# Altium schematic symbol library Resistors.SchLib: 129 symbols (part 2 of 3)
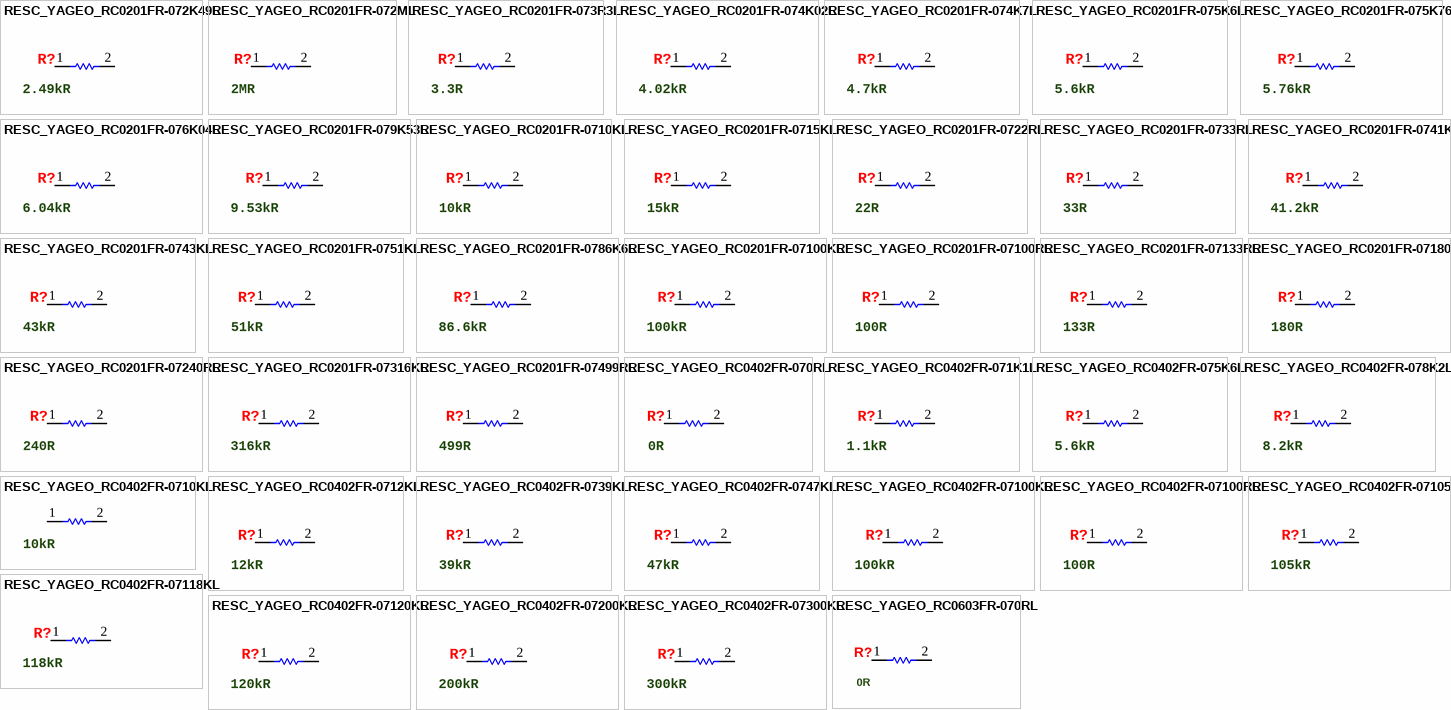
[diagram p4: symbols RESC_YAGEO_RC0201FR-072K49L to RESC_YAGEO_RC0603FR-070RL]

## RESC_YAGEO_RC0201FR-075K76L
designator R?, comment 5.76kR
5.76 kOhms ±1% 0.05W, 1/20W Chip Resistor 0201 (0603 Metric) Moisture Resistant Thick Film; Manufacturer: Yageo; Manufacturer Part Number: RC0201FR-075K76L; Temperature Coefficient: 200ppm/°C; Current Rating: 500mA; Power Rating: 50mW; Voltage Rating (DC): 25V; Category: Chip SMD Resistors; Case/Package: 0201; Min Operating Temperature: -55°C; Max Operating Temperature: 125°C; Resistance: 5.76kR; Resistor Type: Thick Film; Tolerance: 1%; RoHS Compliant: Yes; ComponentLink1URL: https://www.yageo.com/upload/media/product/productsearch/datasheet/rchip/PYu-RC_Group_51_RoHS_L_12.pdf; ComponentLink1Description: Datasheet; Supplier 1: Digi-Key; Supplier 2: Mouser; Supplier Part Number 1: YAG2745CT-ND; Supplier Part Number 2: 603-RC0201FR-075K76L; Mounting Type: SMD/SMT
footprint RESC0603X26N (Chip Resistor, EIA 0201, Metric 0603, Body 0.60x0.30mm, IPC Medium Density)
footprint RESC0603X26L (Chip Resistor, EIA 0201, Metric 0603, Body 0.60x0.30mm, IPC High Density)
footprint RESC0603X26M (Chip Resistor, EIA 0201, Metric 0603, Body 0.60x0.30mm, IPC Low Density)
simulation model Resistor (Model Description)
pins: 1, 2

## RESC_YAGEO_RC0201FR-076K04L
designator R?, comment 6.04kR
6.04 kOhms ±1% 0.05W, 1/20W Chip Resistor 0201 (0603 Metric) Moisture Resistant Thick Film; Manufacturer: Yageo; Manufacturer Part Number: RC0201FR-076K04L; Power Rating: 50mW; Temperature Coefficient: 200ppm/°C; Current Rating: 500mA; Voltage Rating (DC): 25V; Category: Chip SMD Resistors; Case/Package: 0201; Min Operating Temperature: -55°C; Max Operating Temperature: 125°C; Resistance: 6.04kR; Tolerance: 1%; Resistor Type: Thick Film; RoHS Compliant: Yes; ComponentLink1URL: https://www.yageo.com/upload/media/product/productsearch/datasheet/rchip/PYu-RC_Group_51_RoHS_L_12.pdf; ComponentLink1Description: Datasheet; Supplier 1: Digi-Key; Supplier 2: Mouser; Supplier Part Number 1: YAG2778CT-ND; Supplier Part Number 2: 603-RC0201FR-076K04L; Mounting Type: SMD/SMT
footprint RESC0603X26N (Chip Resistor, EIA 0201, Metric 0603, Body 0.60x0.30mm, IPC Medium Density)
footprint RESC0603X26L (Chip Resistor, EIA 0201, Metric 0603, Body 0.60x0.30mm, IPC High Density)
footprint RESC0603X26M (Chip Resistor, EIA 0201, Metric 0603, Body 0.60x0.30mm, IPC Low Density)
simulation model Resistor (Model Description)
pins: 1, 2

## RESC_YAGEO_RC0201FR-079K53L
designator R?, comment 9.53kR
9.53 kOhms ±1% 0.05W, 1/20W Chip Resistor 0201 (0603 Metric) Moisture Resistant Thick Film; Manufacturer: Yageo; Manufacturer Part Number: RC0201FR-079K53L; Temperature Coefficient: 200ppm/°C; Current Rating: 500mA; Power Rating: 50mW; Voltage Rating (DC): 25V; Category: Chip SMD Resistors; Case/Package: 0201; Min Operating Temperature: -55°C; Max Operating Temperature: 125°C; Resistance: 9.53kR; Resistor Type: Thick Film; Tolerance: 1%; RoHS Compliant: Yes; ComponentLink1URL: https://www.yageo.com/upload/media/product/productsearch/datasheet/rchip/PYu-RC_Group_51_RoHS_L_12.pdf; ComponentLink1Description: Datasheet; Supplier 1: Digi-Key; Supplier 2: Mouser; Supplier Part Number 1: YAG2859CT-ND; Supplier Part Number 2: 603-RC0201FR-079K53L; Mounting Type: SMD/SMT
footprint RESC0603X26N (Chip Resistor, EIA 0201, Metric 0603, Body 0.60x0.30mm, IPC Medium Density)
footprint RESC0603X26L (Chip Resistor, EIA 0201, Metric 0603, Body 0.60x0.30mm, IPC High Density)
footprint RESC0603X26M (Chip Resistor, EIA 0201, Metric 0603, Body 0.60x0.30mm, IPC Low Density)
simulation model Resistor (Model Description)
pins: 1, 2

## RESC_YAGEO_RC0201FR-0710KL
designator R?, comment 10kR
10 kOhms ±1% 0.05W, 1/20W Chip Resistor 0201 (0603 Metric) Moisture Resistant Thick Film; Manufacturer: Yageo; Manufacturer Part Number: RC0201FR-0710KL; Temperature Coefficient: 200ppm/°C; Power Rating: 50mW; Voltage Rating (DC): 25V; Current Rating: 500mA; Category: Chip SMD Resistors; Case/Package: 0201; Min Operating Temperature: -55°C; Max Operating Temperature: 125°C; Resistance: 10kR; Tolerance: 1%; Resistor Type: Thick Film; RoHS Compliant: Yes; ComponentLink1Description: Datasheet; ComponentLink1URL: https://www.yageo.com/upload/media/product/productsearch/datasheet/rchip/PYu-RC_Group_51_RoHS_L_12.pdf; Supplier 1: Digi-Key; Supplier 2: Mouser; Supplier Part Number 1: 311-10.0KMCT-ND; Supplier Part Number 2: 603-RC0201FR-0710KL; Mounting Type: SMD/SMT
footprint RESC0603X26N (Chip Resistor, EIA 0201, Metric 0603, Body 0.60x0.30mm, IPC Medium Density)
footprint RESC0603X26L (Chip Resistor, EIA 0201, Metric 0603, Body 0.60x0.30mm, IPC High Density)
footprint RESC0603X26M (Chip Resistor, EIA 0201, Metric 0603, Body 0.60x0.30mm, IPC Low Density)
simulation model Resistor (Model Description)
pins: 1, 2

## RESC_YAGEO_RC0201FR-0715KL
designator R?, comment 15kR
15 kOhms ±1% 0.05W, 1/20W Chip Resistor 0201 (0603 Metric) Moisture Resistant Thick Film; Manufacturer: Yageo; Manufacturer Part Number: RC0201FR-0715KL; Power Rating: 50mW; Temperature Coefficient: 200ppm/°C; Voltage Rating (DC): 25V; Current Rating: 500mA; Category: Chip SMD Resistors; Case/Package: 0201; Min Operating Temperature: -55°C; Max Operating Temperature: 125°C; Resistance: 15kR; Tolerance: 1%; Resistor Type: Thick Film; RoHS Compliant: Yes; ComponentLink1Description: Datasheet; ComponentLink1URL: https://www.yageo.com/upload/media/product/productsearch/datasheet/rchip/PYu-RC_Group_51_RoHS_L_12.pdf; Supplier 1: Digi-Key; Supplier 2: Mouser; Supplier Part Number 1: YAG2423CT-ND; Supplier Part Number 2: 603-RC0201FR-0715KL; Mounting Type: SMD/SMT
footprint RESC0603X26N (Chip Resistor, EIA 0201, Metric 0603, Body 0.60x0.30mm, IPC Medium Density)
footprint RESC0603X26L (Chip Resistor, EIA 0201, Metric 0603, Body 0.60x0.30mm, IPC High Density)
footprint RESC0603X26M (Chip Resistor, EIA 0201, Metric 0603, Body 0.60x0.30mm, IPC Low Density)
simulation model Resistor (Model Description)
pins: 1, 2

## RESC_YAGEO_RC0201FR-0722RL
designator R?, comment 22R
22 Ohms ±1% 0.05W, 1/20W Chip Resistor 0201 (0603 Metric) Moisture Resistant Thick Film; Manufacturer: Yageo; Manufacturer Part Number: RC0201FR-0722RL; Temperature Coefficient: 200ppm/°C; Power Rating: 50mW; Current Rating: 500mA; Voltage Rating (DC): 25V; Category: Chip SMD Resistors; Case/Package: 0201; Min Operating Temperature: -55°C; Max Operating Temperature: 125°C; Tolerance: 1%; Resistance: 22R; Resistor Type: Thick Film; RoHS Compliant: Yes; ComponentLink1URL: https://www.yageo.com/upload/media/product/productsearch/datasheet/rchip/PYu-RC_Group_51_RoHS_L_12.pdf; ComponentLink1Description: Datasheet; Supplier 1: Digi-Key; Supplier 2: Mouser; Supplier Part Number 1: YAG2518CT-ND; Supplier Part Number 2: 603-RC0201FR-0722RL; Mounting Type: SMD/SMT
footprint RESC0603X26N (Chip Resistor, EIA 0201, Metric 0603, Body 0.60x0.30mm, IPC Medium Density)
footprint RESC0603X26L (Chip Resistor, EIA 0201, Metric 0603, Body 0.60x0.30mm, IPC High Density)
footprint RESC0603X26M (Chip Resistor, EIA 0201, Metric 0603, Body 0.60x0.30mm, IPC Low Density)
simulation model Resistor (Model Description)
pins: 1, 2

## RESC_YAGEO_RC0201FR-0733RL
designator R?, comment 33R
33 Ohms ±1% 0.05W, 1/20W Chip Resistor 0201 (0603 Metric) Moisture Resistant Thick Film; Manufacturer: Yageo; Manufacturer Part Number: RC0201FR-0733RL; Power Rating: 50mW; Temperature Coefficient: 200ppm/°C; Current Rating: 500mA; Voltage Rating (DC): 25V; Category: Chip SMD Resistors; Case/Package: 0201; Min Operating Temperature: -55°C; Max Operating Temperature: 125°C; Resistance: 33R; Tolerance: 1%; Resistor Type: Thick Film; RoHS Compliant: Yes; ComponentLink1URL: https://www.yageo.com/upload/media/product/productsearch/datasheet/rchip/PYu-RC_Group_51_RoHS_L_12.pdf; ComponentLink1Description: Datasheet; Supplier 1: Digi-Key; Supplier 2: Mouser; Supplier Part Number 1: 311-33.0MCT-ND; Supplier Part Number 2: 603-RC0201FR-0733RL; Mounting Type: SMD/SMT
footprint RESC0603X26N (Chip Resistor, EIA 0201, Metric 0603, Body 0.60x0.30mm, IPC Medium Density)
footprint RESC0603X26L (Chip Resistor, EIA 0201, Metric 0603, Body 0.60x0.30mm, IPC High Density)
footprint RESC0603X26M (Chip Resistor, EIA 0201, Metric 0603, Body 0.60x0.30mm, IPC Low Density)
simulation model Resistor (Model Description)
pins: 1, 2

## RESC_YAGEO_RC0201FR-0741K2L
designator R?, comment 41.2kR
41.2 kOhms ±1% 0.05W, 1/20W Chip Resistor 0201 (0603 Metric) Moisture Resistant Thick Film; Manufacturer: Yageo; Manufacturer Part Number: RC0201FR-0741K2L; Temperature Coefficient: 200ppm/°C; Current Rating: 500mA; Power Rating: 50mW; Voltage Rating (DC): 25V; Category: Chip SMD Resistors; Case/Package: 0201; Min Operating Temperature: -55°C; Max Operating Temperature: 125°C; Resistance: 41.2kR; Tolerance: 1%; Resistor Type: Thick Film; RoHS Compliant: Yes; ComponentLink1Description: Datasheet; ComponentLink1URL: https://www.yageo.com/upload/media/product/productsearch/datasheet/rchip/PYu-RC_Group_51_RoHS_L_12.pdf; Supplier 1: Digi-Key; Supplier 2: Mouser; Supplier Part Number 1: YAG2662CT-ND; Supplier Part Number 2: 603-RC0201FR-0741K2L; Mounting Type: SMD/SMT
footprint RESC0603X26N (Chip Resistor, EIA 0201, Metric 0603, Body 0.60x0.30mm, IPC Medium Density)
footprint RESC0603X26M (Chip Resistor, EIA 0201, Metric 0603, Body 0.60x0.30mm, IPC Low Density)
footprint RESC0603X26L (Chip Resistor, EIA 0201, Metric 0603, Body 0.60x0.30mm, IPC High Density)
simulation model Resistor (Model Description)
pins: 1, 2

## RESC_YAGEO_RC0201FR-0743KL
designator R?, comment 43kR
43 kOhms ±1% 0.05W, 1/20W Chip Resistor 0201 (0603 Metric) Moisture Resistant Thick Film; Manufacturer: Yageo; Manufacturer Part Number: RC0201FR-0743KL; Temperature Coefficient: 200ppm/°C; Current Rating: 500mA; Power Rating: 50mW; Voltage Rating (DC): 25V; Category: Chip SMD Resistors; Case/Package: 0201; Min Operating Temperature: -55°C; Max Operating Temperature: 125°C; Resistance: 43kR; Tolerance: 1%; Resistor Type: Thick Film; RoHS Compliant: Yes; ComponentLink1Description: Datasheet; ComponentLink1URL: https://www.yageo.com/upload/media/product/productsearch/datasheet/rchip/PYu-RC_Group_51_RoHS_L_12.pdf; Supplier 1: Digi-Key; Supplier 2: Mouser; Supplier Part Number 1: YAG2673CT-ND; Supplier Part Number 2: 603-RC0201FR-0743KL; Mounting Type: SMD/SMT
footprint RESC0603X26N (Chip Resistor, EIA 0201, Metric 0603, Body 0.60x0.30mm, IPC Medium Density)
footprint RESC0603X26L (Chip Resistor, EIA 0201, Metric 0603, Body 0.60x0.30mm, IPC High Density)
footprint RESC0603X26M (Chip Resistor, EIA 0201, Metric 0603, Body 0.60x0.30mm, IPC Low Density)
simulation model Resistor (Model Description)
pins: 1, 2

## RESC_YAGEO_RC0201FR-0751KL
designator R?, comment 51kR
51 kOhms ±1% 0.05W, 1/20W Chip Resistor 0201 (0603 Metric) Moisture Resistant Thick Film; Manufacturer: Yageo; Manufacturer Part Number: RC0201FR-0751KL; Temperature Coefficient: 200ppm/°C; Power Rating: 50mW; Current Rating: 500mA; Voltage Rating (DC): 25V; Category: Chip SMD Resistors; Case/Package: 0201; Min Operating Temperature: -55°C; Max Operating Temperature: 125°C; Resistance: 51kR; Tolerance: 1%; Resistor Type: Thick Film; RoHS Compliant: Yes; ComponentLink1Description: Datasheet; ComponentLink1URL: https://www.yageo.com/upload/media/product/productsearch/datasheet/rchip/PYu-RC_Group_51_RoHS_L_12.pdf; Supplier 1: Digi-Key; Supplier 2: Mouser; Supplier Part Number 1: 311-51.0KMCT-ND; Supplier Part Number 2: 603-RC0201FR-0751KL; Mounting Type: SMD/SMT
footprint RESC0603X26N (Chip Resistor, EIA 0201, Metric 0603, Body 0.60x0.30mm, IPC Medium Density)
footprint RESC0603X26L (Chip Resistor, EIA 0201, Metric 0603, Body 0.60x0.30mm, IPC High Density)
footprint RESC0603X26M (Chip Resistor, EIA 0201, Metric 0603, Body 0.60x0.30mm, IPC Low Density)
simulation model Resistor (Model Description)
pins: 1, 2

## RESC_YAGEO_RC0201FR-0786K6L
designator R?, comment 86.6kR
86.6 kOhms ±1% 0.05W, 1/20W Chip Resistor 0201 (0603 Metric) Moisture Resistant Thick Film; Manufacturer: Yageo; Manufacturer Part Number: RC0201FR-0786K6L; Current Rating: 500mA; Power Rating: 50mW; Temperature Coefficient: 200ppm/°C; Voltage Rating (DC): 25V; Category: Chip SMD Resistors; Case/Package: 0201; Min Operating Temperature: -55°C; Max Operating Temperature: 125°C; Resistance: 86.6kR; Resistor Type: Thick Film; Tolerance: 1%; RoHS Compliant: Yes; ComponentLink1Description: Datasheet; ComponentLink1URL: https://www.yageo.com/upload/media/product/productsearch/datasheet/rchip/PYu-RC_Group_51_RoHS_L_12.pdf; Supplier 1: Digi-Key; Supplier 2: Mouser; Supplier Part Number 1: YAG2825CT-ND; Supplier Part Number 2: 603-RC0201FR-0786K6L; Mounting Type: SMD/SMT
footprint RESC0603X26N (Chip Resistor, EIA 0201, Metric 0603, Body 0.60x0.30mm, IPC Medium Density)
footprint RESC0603X26L (Chip Resistor, EIA 0201, Metric 0603, Body 0.60x0.30mm, IPC High Density)
footprint RESC0603X26M (Chip Resistor, EIA 0201, Metric 0603, Body 0.60x0.30mm, IPC Low Density)
simulation model Resistor (Model Description)
pins: 1, 2

## RESC_YAGEO_RC0201FR-07100KL
designator R?, comment 100kR
100 kOhms ±1% 0.05W, 1/20W Chip Resistor 0201 (0603 Metric) Moisture Resistant Thick Film; Manufacturer: Yageo; Manufacturer Part Number: RC0201FR-07100KL; Temperature Coefficient: 200ppm/°C; Power Rating: 50mW; Voltage Rating (DC): 25V; Current Rating: 500mA; Category: Chip SMD Resistors; Case/Package: 0201; Min Operating Temperature: -55°C; Max Operating Temperature: 125°C; Tolerance: 1%; Resistance: 100kR; Resistor Type: Thick Film; RoHS Compliant: Yes; ComponentLink1Description: Datasheet; ComponentLink1URL: https://www.yageo.com/upload/media/product/productsearch/datasheet/rchip/PYu-RC_Group_51_RoHS_L_12.pdf; Supplier 1: Digi-Key; Supplier 2: Mouser; Supplier Part Number 1: 311-100KMCT-ND; Supplier Part Number 2: 603-RC0201FR-07100KL; Mounting Type: SMD/SMT
footprint RESC0603X26N (Chip Resistor, EIA 0201, Metric 0603, Body 0.60x0.30mm, IPC Medium Density)
footprint RESC0603X26L (Chip Resistor, EIA 0201, Metric 0603, Body 0.60x0.30mm, IPC High Density)
footprint RESC0603X26M (Chip Resistor, EIA 0201, Metric 0603, Body 0.60x0.30mm, IPC Low Density)
simulation model Resistor (Model Description)
pins: 1, 2

## RESC_YAGEO_RC0201FR-07100RL
designator R?, comment 100R
100 Ohms ±1% 0.05W, 1/20W Chip Resistor 0201 (0603 Metric) Moisture Resistant Thick Film; Manufacturer: Yageo; Manufacturer Part Number: RC0201FR-07100RL; Temperature Coefficient: 200ppm/°C; Power Rating: 50mW; Current Rating: 500mA; Voltage Rating (DC): 25V; Category: Chip SMD Resistors; Case/Package: 0201; Min Operating Temperature: -55°C; Max Operating Temperature: 125°C; Resistance: 100R; Tolerance: 1%; Resistor Type: Thick Film; RoHS Compliant: Yes; ComponentLink1Description: Datasheet; ComponentLink1URL: https://www.yageo.com/upload/media/product/productsearch/datasheet/rchip/PYu-RC_Group_51_RoHS_L_12.pdf; Supplier 1: Digi-Key; Supplier 2: Mouser; Supplier Part Number 1: 311-100MCT-ND; Supplier Part Number 2: 603-RC0201FR-07100RL; Mounting Type: SMD/SMT
footprint RESC0603X26N (Chip Resistor, EIA 0201, Metric 0603, Body 0.60x0.30mm, IPC Medium Density)
footprint RESC0603X26L (Chip Resistor, EIA 0201, Metric 0603, Body 0.60x0.30mm, IPC High Density)
footprint RESC0603X26M (Chip Resistor, EIA 0201, Metric 0603, Body 0.60x0.30mm, IPC Low Density)
simulation model Resistor (Model Description)
pins: 1, 2

## RESC_YAGEO_RC0201FR-07133RL
designator R?, comment 133R
133 Ohms ±1% 0.05W, 1/20W Chip Resistor 0201 (0603 Metric) Moisture Resistant Thick Film; Manufacturer: Yageo; Manufacturer Part Number: RC0201FR-07133RL; Temperature Coefficient: 200ppm/°C; Current Rating: 500mA; Power Rating: 50mW; Voltage Rating (DC): 25V; Category: Chip SMD Resistors; Case/Package: 0201; Min Operating Temperature: -55°C; Max Operating Temperature: 125°C; Resistance: 133R; Resistor Type: Thick Film; Tolerance: 1%; RoHS Compliant: Yes; ComponentLink1Description: Datasheet; ComponentLink1URL: https://www.yageo.com/upload/media/product/productsearch/datasheet/rchip/PYu-RC_Group_51_RoHS_L_12.pdf; Supplier 1: Digi-Key; Supplier 2: Mouser; Supplier Part Number 1: YAG2396CT-ND; Supplier Part Number 2: 603-RC0201FR-07133RL; Mounting Type: SMD/SMT
footprint RESC0603X26N (Chip Resistor, EIA 0201, Metric 0603, Body 0.60x0.30mm, IPC Medium Density)
footprint RESC0603X26L (Chip Resistor, EIA 0201, Metric 0603, Body 0.60x0.30mm, IPC High Density)
footprint RESC0603X26M (Chip Resistor, EIA 0201, Metric 0603, Body 0.60x0.30mm, IPC Low Density)
simulation model Resistor (Model Description)
pins: 1, 2

## RESC_YAGEO_RC0201FR-07180RL
designator R?, comment 180R
180 Ohms ±1% 0.05W, 1/20W Chip Resistor 0201 (0603 Metric) Moisture Resistant Thick Film; Manufacturer: Yageo; Manufacturer Part Number: RC0201FR-07180RL; Temperature Coefficient: 200ppm/°C; Power Rating: 50mW; Current Rating: 500mA; Voltage Rating (DC): 25V; Category: Chip SMD Resistors; Case/Package: 0201; Min Operating Temperature: -55°C; Max Operating Temperature: 125°C; Resistance: 180R; Tolerance: 1%; Resistor Type: Thick Film; RoHS Compliant: Yes; ComponentLink1Description: Datasheet; ComponentLink1URL: https://www.yageo.com/upload/media/product/productsearch/datasheet/rchip/PYu-RC_Group_51_RoHS_L_12.pdf; Supplier 1: Digi-Key; Supplier 2: Mouser; Supplier Part Number 1: YAG2450CT-ND; Supplier Part Number 2: 603-RC0201FR-07180RL; Mounting Type: SMD/SMT
footprint RESC0603X26N (Chip Resistor, EIA 0201, Metric 0603, Body 0.60x0.30mm, IPC Medium Density)
footprint RESC0603X26L (Chip Resistor, EIA 0201, Metric 0603, Body 0.60x0.30mm, IPC High Density)
footprint RESC0603X26M (Chip Resistor, EIA 0201, Metric 0603, Body 0.60x0.30mm, IPC Low Density)
simulation model Resistor (Model Description)
pins: 1, 2

## RESC_YAGEO_RC0201FR-07240RL
designator R?, comment 240R
240 Ohms ±1% 0.05W, 1/20W Chip Resistor 0201 (0603 Metric) Moisture Resistant Thick Film; Manufacturer: Yageo; Manufacturer Part Number: RC0201FR-07240RL; Power Rating: 50mW; Temperature Coefficient: 200ppm/°C; Current Rating: 500mA; Voltage Rating (DC): 25V; Category: Chip SMD Resistors; Case/Package: 0201; Min Operating Temperature: -55°C; Max Operating Temperature: 125°C; Resistance: 240R; Tolerance: 1%; Resistor Type: Thick Film; RoHS Compliant: Yes; ComponentLink1Description: Datasheet; ComponentLink1URL: https://www.yageo.com/upload/media/product/productsearch/datasheet/rchip/PYu-RC_Group_51_RoHS_L_12.pdf; Supplier 1: Digi-Key; Supplier 2: Mouser; Supplier Part Number 1: YAG2528CT-ND; Supplier Part Number 2: 603-RC0201FR-07240RL; Mounting Type: SMD/SMT
footprint RESC0603X26N (Chip Resistor, EIA 0201, Metric 0603, Body 0.60x0.30mm, IPC Medium Density)
footprint RESC0603X26L (Chip Resistor, EIA 0201, Metric 0603, Body 0.60x0.30mm, IPC High Density)
footprint RESC0603X26M (Chip Resistor, EIA 0201, Metric 0603, Body 0.60x0.30mm, IPC Low Density)
simulation model Resistor (Model Description)
pins: 1, 2

## RESC_YAGEO_RC0201FR-07316KL
designator R?, comment 316kR
316 kOhms ±1% 0.05W, 1/20W Chip Resistor 0201 (0603 Metric) Moisture Resistant Thick Film; Manufacturer: Yageo; Manufacturer Part Number: RC0201FR-07316KL; Temperature Coefficient: 200ppm/°C; Current Rating: 500mA; Power Rating: 50mW; Voltage Rating (DC): 25V; Category: Chip SMD Resistors; Case/Package: 0201; Min Operating Temperature: -55°C; Max Operating Temperature: 125°C; Resistance: 316kR; Resistor Type: Thick Film; Tolerance: 1%; RoHS Compliant: Yes; ComponentLink1Description: Datasheet; ComponentLink1URL: https://www.yageo.com/upload/media/product/productsearch/datasheet/rchip/PYu-RC_Group_51_RoHS_L_12.pdf; Supplier 1: Digi-Key; Supplier 2: Mouser; Supplier Part Number 1: YAG2595CT-ND; Supplier Part Number 2: 603-RC0201FR-07316KL; Mounting Type: SMD/SMT
footprint RESC0603X26N (Chip Resistor, EIA 0201, Metric 0603, Body 0.60x0.30mm, IPC Medium Density)
footprint RESC0603X26L (Chip Resistor, EIA 0201, Metric 0603, Body 0.60x0.30mm, IPC High Density)
footprint RESC0603X26M (Chip Resistor, EIA 0201, Metric 0603, Body 0.60x0.30mm, IPC Low Density)
simulation model Resistor (Model Description)
pins: 1, 2

## RESC_YAGEO_RC0201FR-07499RL
designator R?, comment 499R
499 Ohms ±1% 0.05W, 1/20W Chip Resistor 0201 (0603 Metric) Moisture Resistant Thick Film; Manufacturer: Yageo; Manufacturer Part Number: RC0201FR-07499RL; Temperature Coefficient: 200ppm/°C; Current Rating: 500mA; Power Rating: 50mW; Voltage Rating (DC): 25V; Category: Chip SMD Resistors; Case/Package: 0201; Min Operating Temperature: -55°C; Max Operating Temperature: 125°C; Tolerance: 1%; Resistor Type: Thick Film; RoHS Compliant: Yes; Resistance: 499R; ComponentLink1Description: Datasheet; ComponentLink1URL: https://www.yageo.com/upload/media/product/productsearch/datasheet/rchip/PYu-RC_Group_51_RoHS_L_12.pdf; Supplier 1: Digi-Key; Supplier 2: Mouser; Supplier Part Number 1: YAG2700CT-ND; Supplier Part Number 2: 603-RC0201FR-07499RL; Mounting Type: SMD/SMT
footprint RESC0603X26N (Chip Resistor, EIA 0201, Metric 0603, Body 0.60x0.30mm, IPC Medium Density)
footprint RESC0603X26L (Chip Resistor, EIA 0201, Metric 0603, Body 0.60x0.30mm, IPC High Density)
footprint RESC0603X26M (Chip Resistor, EIA 0201, Metric 0603, Body 0.60x0.30mm, IPC Low Density)
simulation model Resistor (Model Description)
pins: 1, 2

## RESC_YAGEO_RC0402FR-070RL
designator R?, comment 0R
0 Ohms Jumper Chip Resistor 0402 (1005 Metric) Moisture Resistant Thick Film; Manufacturer: Yageo; Manufacturer Part Number: RC0402FR-070RL; Tolerance: 1%; Power Rating: 62.5mW; Temperature Coefficient: 100ppm/°C; Current Rating: 1A; Voltage Rating (DC): 50V; Category: Chip SMD Resistors; Case/Package: 0402; Min Operating Temperature: -55°C; Max Operating Temperature: 155°C; Resistance: 0R; Resistor Type: Thick Film; RoHS Compliant: Yes; ComponentLink1Description: Datasheet; ComponentLink1URL: https://www.yageo.com/upload/media/product/productsearch/datasheet/rchip/PYu-RC_Group_51_RoHS_L_12.pdf; Supplier 1: Digi-Key; Supplier Part Number 1: 311-0.0LRCT-ND; Supplier 2: Mouser; Supplier Part Number 2: 603-RC0402FR-070RL; Mounting Type: SMD/SMT
footprint RESC1005X40N (Chip Resistor, EIA 0402, Metric 1005, Body 1.00x0.50mm, IPC Medium Density)
footprint RESC1005X40L (Chip Resistor, EIA 0402, Metric 1005, Body 1.00x0.50mm, IPC High Density)
footprint RESC1005X40M (Chip Resistor, EIA 0402, Metric 1005, Body 1.00x0.50mm, IPC Low Density)
simulation model Resistor (Model Description)
pins: 1, 2

## RESC_YAGEO_RC0402FR-071K1L
designator R?, comment 1.1kR
1.1 kOhms ±1% 0.063W, 1/16W Chip Resistor 0402 (1005 Metric) Moisture Resistant Thick Film; Manufacturer: Yageo; Manufacturer Part Number: RC0402FR-071K1L; Power Rating: 62.5mW; Temperature Coefficient: 100ppm/°C; Voltage Rating (DC): 50V; Current Rating: 1A; Category: Chip SMD Resistors; Case/Package: 0402; Min Operating Temperature: -55°C; Max Operating Temperature: 155°C; Resistance: 1.1kR; Tolerance: 1%; RoHS Compliant: Yes; ComponentLink1URL: https://www.yageo.com/upload/media/product/productsearch/datasheet/rchip/PYu-RC_Group_51_RoHS_L_12.pdf; ComponentLink1Description: Datasheet; Resistor Type: Thick Film; Supplier 1: Digi-Key; Supplier Part Number 1: 311-1.10KLRCT-ND; Supplier 2: Mouser; Supplier Part Number 2: 603-RC0402FR-071K1L; Mounting Type: SMD/SMT
footprint RESC1005X40N (Chip Resistor, EIA 0402, Metric 1005, Body 1.00x0.50mm, IPC Medium Density)
footprint RESC1005X40M (Chip Resistor, EIA 0402, Metric 1005, Body 1.00x0.50mm, IPC Low Density)
footprint RESC1005X40L (Chip Resistor, EIA 0402, Metric 1005, Body 1.00x0.50mm, IPC High Density)
simulation model Resistor (Model Description)
pins: 1, 2

## RESC_YAGEO_RC0402FR-075K6L
designator R?, comment 5.6kR
5.6 kOhms ±1% 0.063W, 1/16W Chip Resistor 0402 (1005 Metric) Moisture Resistant Thick Film; Manufacturer: Yageo; Manufacturer Part Number: RC0402FR-075K6L; Power Rating: 62.5mW; Temperature Coefficient: 100ppm/°C; Current Rating: 1A; Voltage Rating (DC): 50V; Category: Chip SMD Resistors; Case/Package: 0402; Min Operating Temperature: -55°C; Max Operating Temperature: 155°C; Tolerance: 1%; Resistance: 5.6kR; Resistor Type: Thick Film; RoHS Compliant: Yes; ComponentLink1URL: https://www.yageo.com/upload/media/product/productsearch/datasheet/rchip/PYu-RC_Group_51_RoHS_L_12.pdf; ComponentLink1Description: Datasheet; Supplier 1: Digi-Key; Supplier 2: Mouser; Supplier Part Number 1: 311-5.6KLRCT-ND; Supplier Part Number 2: 603-RC0402FR-075K6L; Mounting Type: SMD/SMT
footprint RESC1005X40N (Chip Resistor, EIA 0402, Metric 1005, Body 1.00x0.50mm, IPC Medium Density)
footprint RESC1005X40L (Chip Resistor, EIA 0402, Metric 1005, Body 1.00x0.50mm, IPC High Density)
footprint RESC1005X40M (Chip Resistor, EIA 0402, Metric 1005, Body 1.00x0.50mm, IPC Low Density)
simulation model Resistor (Model Description)
pins: 1, 2

## RESC_YAGEO_RC0402FR-078K2L
designator R?, comment 8.2kR
8.2 kOhms ±1% 0.063W, 1/16W Chip Resistor 0402 (1005 Metric) Moisture Resistant Thick Film; Manufacturer: Yageo; Manufacturer Part Number: RC0402FR-078K2L; Power Rating: 62.5mW; Temperature Coefficient: 100ppm/°C; Current Rating: 1A; Voltage Rating (DC): 50V; Category: Chip SMD Resistors; Case/Package: 0402; Min Operating Temperature: -55°C; Max Operating Temperature: 155°C; Resistance: 8.2kR; Tolerance: 1%; Resistor Type: Thick Film; RoHS Compliant: Yes; ComponentLink1URL: https://www.yageo.com/upload/media/product/productsearch/datasheet/rchip/PYu-RC_Group_51_RoHS_L_12.pdf; ComponentLink1Description: Datasheet; Supplier 1: Digi-Key; Supplier 2: Mouser; Supplier Part Number 1: 311-8.20KLRCT-ND; Supplier Part Number 2: 603-RC0402FR-078K2L; Mounting Type: SMD/SMT
footprint RESC1005X40N (Chip Resistor, EIA 0402, Metric 1005, Body 1.00x0.50mm, IPC Medium Density)
footprint RESC1005X40L (Chip Resistor, EIA 0402, Metric 1005, Body 1.00x0.50mm, IPC High Density)
footprint RESC1005X40M (Chip Resistor, EIA 0402, Metric 1005, Body 1.00x0.50mm, IPC Low Density)
simulation model Resistor (Model Description)
pins: 1, 2

## RESC_YAGEO_RC0402FR-0710KL
designator R?, comment 10kR
10 kOhms ±1% 0.063W, 1/16W Chip Resistor 0402 (1005 Metric) Moisture Resistant Thick Film; Manufacturer: Yageo; Manufacturer Part Number: RC0402FR-0710KL; Voltage Rating (DC): 50V; Temperature Coefficient: 100ppm/°C; Power Rating: 62.5mW; Current Rating: 1A; Category: Chip SMD Resistors; Case/Package: 0402; Min Operating Temperature: -55°C; Max Operating Temperature: 155°C; Resistor Type: Thick Film; Resistance: 10kR; Tolerance: 1%; RoHS Compliant: Yes; ComponentLink1Description: Datasheet; ComponentLink1URL: https://www.yageo.com/upload/media/product/productsearch/datasheet/rchip/PYu-RC_Group_51_RoHS_L_12.pdf; Supplier 1: Digi-Key; Supplier 2: Mouser; Supplier Part Number 1: 311-10.0KLRCT-ND; Supplier Part Number 2: 603-RC0402FR-0710KL; Mounting Type: SMD/SMT
footprint RESC1005X40N (Chip Resistor, EIA 0402, Metric 1005, Body 1.00x0.50mm, IPC Medium Density)
footprint RESC1005X40L (Chip Resistor, EIA 0402, Metric 1005, Body 1.00x0.50mm, IPC High Density)
footprint RESC1005X40M (Chip Resistor, EIA 0402, Metric 1005, Body 1.00x0.50mm, IPC Low Density)
simulation model Resistor (Model Description)
pins: 1, 2

## RESC_YAGEO_RC0402FR-0712KL
designator R?, comment 12kR
12 kOhms ±1% 0.063W, 1/16W Chip Resistor 0402 (1005 Metric) Moisture Resistant Thick Film; Manufacturer: Yageo; Manufacturer Part Number: RC0402FR-0712KL; Power Rating: 62.5mW; Temperature Coefficient: 100ppm/°C; Current Rating: 1A; Voltage Rating (DC): 50V; Category: Chip SMD Resistors; Case/Package: 0402; Min Operating Temperature: -55°C; Max Operating Temperature: 155°C; Resistance: 12kR; Tolerance: 1%; Resistor Type: Thick Film; RoHS Compliant: Yes; ComponentLink1URL: https://www.yageo.com/upload/media/product/productsearch/datasheet/rchip/PYu-RC_Group_51_RoHS_L_12.pdf; ComponentLink1Description: Datasheet; Supplier 1: Digi-Key; Supplier 2: Mouser; Supplier Part Number 1: 311-12.0KLRCT-ND; Supplier Part Number 2: 603-RC0402FR-0712KL; Mounting Type: SMD/SMT
footprint RESC1005X40N (Chip Resistor, EIA 0402, Metric 1005, Body 1.00x0.50mm, IPC Medium Density)
footprint RESC1005X40L (Chip Resistor, EIA 0402, Metric 1005, Body 1.00x0.50mm, IPC High Density)
footprint RESC1005X40M (Chip Resistor, EIA 0402, Metric 1005, Body 1.00x0.50mm, IPC Low Density)
simulation model Resistor (Model Description)
pins: 1, 2

## RESC_YAGEO_RC0402FR-0739KL
designator R?, comment 39kR
39 kOhms ±1% 0.063W, 1/16W Chip Resistor 0402 (1005 Metric) Moisture Resistant Thick Film; Manufacturer: Yageo; Manufacturer Part Number: RC0402FR-0739KL; Power Rating: 62.5mW; Temperature Coefficient: 100ppm/°C; Current Rating: 1A; Voltage Rating (DC): 50V; Category: Chip SMD Resistors; Case/Package: 0402; Min Operating Temperature: -55°C; Max Operating Temperature: 155°C; Resistance: 39kR; Tolerance: 1%; Resistor Type: Thick Film; RoHS Compliant: Yes; ComponentLink1Description: Datasheet; ComponentLink1URL: https://www.yageo.com/upload/media/product/productsearch/datasheet/rchip/PYu-RC_Group_51_RoHS_L_12.pdf; Supplier 1: Digi-Key; Supplier 2: Mouser; Supplier Part Number 1: 311-39.0KLRCT-ND; Supplier Part Number 2: 603-RC0402FR-0739KL; Mounting Type: SMD/SMT
footprint RESC1005X40N (Chip Resistor, EIA 0402, Metric 1005, Body 1.00x0.50mm, IPC Medium Density)
footprint RESC1005X40L (Chip Resistor, EIA 0402, Metric 1005, Body 1.00x0.50mm, IPC High Density)
footprint RESC1005X40M (Chip Resistor, EIA 0402, Metric 1005, Body 1.00x0.50mm, IPC Low Density)
simulation model Resistor (Model Description)
pins: 1, 2

## RESC_YAGEO_RC0402FR-0747KL
designator R?, comment 47kR
47 kOhms ±1% 0.063W, 1/16W Chip Resistor 0402 (1005 Metric) Moisture Resistant Thick Film; Manufacturer: Yageo; Manufacturer Part Number: RC0402FR-0747KL; Power Rating: 62.5mW; Temperature Coefficient: 100ppm/°C; Current Rating: 1A; Voltage Rating (DC): 50V; Category: Chip SMD Resistors; Case/Package: 0402; Min Operating Temperature: -55°C; Max Operating Temperature: 155°C; Tolerance: 1%; Resistance: 47kR; Resistor Type: Thick Film; RoHS Compliant: Yes; ComponentLink1Description: Datasheet; ComponentLink1URL: https://www.yageo.com/upload/media/product/productsearch/datasheet/rchip/PYu-RC_Group_51_RoHS_L_12.pdf; Supplier 1: Digi-Key; Supplier 2: Mouser; Supplier Part Number 1: 311-47.0KLRCT-ND; Supplier Part Number 2: 603-RC0402FR-0747KL; Mounting Type: SMD/SMT
footprint RESC1005X40N (Chip Resistor, EIA 0402, Metric 1005, Body 1.00x0.50mm, IPC Medium Density)
footprint RESC1005X40L (Chip Resistor, EIA 0402, Metric 1005, Body 1.00x0.50mm, IPC High Density)
footprint RESC1005X40M (Chip Resistor, EIA 0402, Metric 1005, Body 1.00x0.50mm, IPC Low Density)
simulation model Resistor (Model Description)
pins: 1, 2

## RESC_YAGEO_RC0402FR-07100KL
designator R?, comment 100kR
100 kOhms ±1% 0.063W, 1/16W Chip Resistor 0402 (1005 Metric) Moisture Resistant Thick Film; Manufacturer: Yageo; Manufacturer Part Number: RC0402FR-07100KL; Temperature Coefficient: 100ppm/°C; Power Rating: 62.5mW; Current Rating: 1A; Voltage Rating (DC): 50V; Category: Chip SMD Resistors; Case/Package: 0402; Min Operating Temperature: -55°C; Max Operating Temperature: 155°C; Resistor Type: Thick Film; Tolerance: 1%; Resistance: 100kR; RoHS Compliant: Yes; ComponentLink1Description: Datasheet; ComponentLink1URL: https://www.yageo.com/upload/media/product/productsearch/datasheet/rchip/PYu-RC_Group_51_RoHS_L_12.pdf; Supplier 1: Digi-Key; Supplier 2: Mouser; Supplier Part Number 1: 311-100KLRCT-ND; Supplier Part Number 2: 603-RC0402FR-07100KL; Mounting Type: SMD/SMT
footprint RESC1005X40N (Chip Resistor, EIA 0402, Metric 1005, Body 1.00x0.50mm, IPC Medium Density)
footprint RESC1005X40L (Chip Resistor, EIA 0402, Metric 1005, Body 1.00x0.50mm, IPC High Density)
footprint RESC1005X40M (Chip Resistor, EIA 0402, Metric 1005, Body 1.00x0.50mm, IPC Low Density)
simulation model Resistor (Model Description)
pins: 1, 2

## RESC_YAGEO_RC0402FR-07100RL
designator R?, comment 100R
100 Ohms ±1% 0.063W, 1/16W Chip Resistor 0402 (1005 Metric) Moisture Resistant Thick Film; Manufacturer: Yageo; Manufacturer Part Number: RC0402FR-07100RL; Power Rating: 62.5mW; Voltage Rating (DC): 50V; Temperature Coefficient: 100ppm/°C; Current Rating: 1A; Category: Chip SMD Resistors; Case/Package: 0402; Min Operating Temperature: -55°C; Max Operating Temperature: 155°C; Tolerance: 1%; Resistance: 100R; Resistor Type: Thick Film; RoHS Compliant: Yes; ComponentLink1Description: Datasheet; ComponentLink1URL: https://www.yageo.com/upload/media/product/productsearch/datasheet/rchip/PYu-RC_Group_51_RoHS_L_12.pdf; Supplier 1: Digi-Key; Supplier 2: Mouser; Supplier Part Number 1: 311-100LRCT-ND; Supplier Part Number 2: 603-RC0402FR-07100RL; Mounting Type: SMD/SMT
footprint RESC1005X40N (Chip Resistor, EIA 0402, Metric 1005, Body 1.00x0.50mm, IPC Medium Density)
footprint RESC1005X40L (Chip Resistor, EIA 0402, Metric 1005, Body 1.00x0.50mm, IPC High Density)
footprint RESC1005X40M (Chip Resistor, EIA 0402, Metric 1005, Body 1.00x0.50mm, IPC Low Density)
simulation model Resistor (Model Description)
pins: 1, 2

## RESC_YAGEO_RC0402FR-07105KL
designator R?, comment 105kR
105 kOhms ±1% 0.063W, 1/16W Chip Resistor 0402 (1005 Metric) Moisture Resistant Thick Film; Manufacturer: Yageo; Manufacturer Part Number: RC0402FR-07105KL; Temperature Coefficient: 100ppm/°C; Power Rating: 62.5mW; Current Rating: 1A; Voltage Rating (DC): 50V; Category: Chip SMD Resistors; Case/Package: 0402; Min Operating Temperature: -55°C; Max Operating Temperature: 155°C; Tolerance: 1%; Resistance: 105kR; Resistor Type: Thick Film; RoHS Compliant: Yes; ComponentLink1Description: Datasheet; ComponentLink1URL: https://www.yageo.com/upload/media/product/productsearch/datasheet/rchip/PYu-RC_Group_51_RoHS_L_12.pdf; Supplier 1: Digi-Key; Supplier 2: Mouser; Supplier Part Number 1: YAG2946CT-ND; Supplier Part Number 2: 603-RC0402FR-07105KL; Mounting Type: SMD/SMT
footprint RESC1005X40N (Chip Resistor, EIA 0402, Metric 1005, Body 1.00x0.50mm, IPC Medium Density)
footprint RESC1005X40L (Chip Resistor, EIA 0402, Metric 1005, Body 1.00x0.50mm, IPC High Density)
footprint RESC1005X40M (Chip Resistor, EIA 0402, Metric 1005, Body 1.00x0.50mm, IPC Low Density)
simulation model Resistor (Model Description)
pins: 1, 2

## RESC_YAGEO_RC0402FR-07118KL
designator R?, comment 118kR
118 kOhms ±1% 0.063W, 1/16W Chip Resistor 0402 (1005 Metric) Moisture Resistant Thick Film; Manufacturer: Yageo; Manufacturer Part Number: RC0402FR-07118KL; Temperature Coefficient: 100ppm/°C; Power Rating: 62.5mW; Voltage Rating (DC): 50V; Current Rating: 1A; Category: Chip SMD Resistors; Case/Package: 0402; Min Operating Temperature: -55°C; Max Operating Temperature: 155°C; Resistance: 118kR; Tolerance: 1%; Resistor Type: Thick Film; RoHS Compliant: Yes; ComponentLink1Description: Datasheet; ComponentLink1URL: https://www.yageo.com/upload/media/product/productsearch/datasheet/rchip/PYu-RC_Group_51_RoHS_L_12.pdf; Supplier 1: Digi-Key; Supplier 2: Mouser; Supplier Part Number 1: YAG2369CT-ND; Supplier Part Number 2: 603-RC0402FR-07118KL; Mounting Type: SMD/SMT
footprint RESC1005X40N (Chip Resistor, EIA 0402, Metric 1005, Body 1.00x0.50mm, IPC Medium Density)
footprint RESC1005X40L (Chip Resistor, EIA 0402, Metric 1005, Body 1.00x0.50mm, IPC High Density)
footprint RESC1005X40M (Chip Resistor, EIA 0402, Metric 1005, Body 1.00x0.50mm, IPC Low Density)
simulation model Resistor (Model Description)
pins: 1, 2

## RESC_YAGEO_RC0402FR-07120KL
designator R?, comment 120kR
120 kOhms ±1% 0.063W, 1/16W Chip Resistor 0402 (1005 Metric) Moisture Resistant Thick Film; Manufacturer: Yageo; Manufacturer Part Number: RC0402FR-07120KL; Power Rating: 62.5mW; Temperature Coefficient: 100ppm/°C; Current Rating: 1A; Voltage Rating (DC): 50V; Category: Chip SMD Resistors; Case/Package: 0402; Min Operating Temperature: -55°C; Max Operating Temperature: 155°C; Resistance: 120kR; Tolerance: 1%; Resistor Type: Thick Film; RoHS Compliant: Yes; ComponentLink1Description: Datasheet; ComponentLink1URL: https://www.yageo.com/upload/media/product/productsearch/datasheet/rchip/PYu-RC_Group_51_RoHS_L_12.pdf; Supplier 1: Digi-Key; Supplier 2: Mouser; Supplier Part Number 1: 311-120KLRCT-ND; Supplier Part Number 2: 603-RC0402FR-07120KL; Mounting Type: SMD/SMT
footprint RESC1005X40N (Chip Resistor, EIA 0402, Metric 1005, Body 1.00x0.50mm, IPC Medium Density)
footprint RESC1005X40L (Chip Resistor, EIA 0402, Metric 1005, Body 1.00x0.50mm, IPC High Density)
footprint RESC1005X40M (Chip Resistor, EIA 0402, Metric 1005, Body 1.00x0.50mm, IPC Low Density)
simulation model Resistor (Model Description)
pins: 1, 2

## RESC_YAGEO_RC0402FR-07200KL
designator R?, comment 200kR
200 kOhms ±1% 0.063W, 1/16W Chip Resistor 0402 (1005 Metric) Moisture Resistant Thick Film; Manufacturer: Yageo; Manufacturer Part Number: RC0402FR-07200KL; Power Rating: 63mW; Temperature Coefficient: 100ppm/°C; Voltage Rating (DC): 50V; Current Rating: 1A; Category: Chip SMD Resistors; Case/Package: 0402; Min Operating Temperature: -55°C; Max Operating Temperature: 155°C; Tolerance: 1%; Resistance: 200kR; Resistor Type: Thick Film; RoHS Compliant: Yes; ComponentLink1Description: Datasheet; ComponentLink1URL: https://www.yageo.com/upload/media/product/productsearch/datasheet/rchip/PYu-RC_Group_51_RoHS_L_12.pdf; Supplier 1: Digi-Key; Supplier 2: Mouser; Supplier Part Number 1: 311-200KLRCT-ND; Supplier Part Number 2: 603-RC0402FR-07200KL; Mounting Type: SMD/SMT
footprint RESC1005X40N (Chip Resistor, EIA 0402, Metric 1005, Body 1.00x0.50mm, IPC Medium Density)
footprint RESC1005X40L (Chip Resistor, EIA 0402, Metric 1005, Body 1.00x0.50mm, IPC High Density)
footprint RESC1005X40M (Chip Resistor, EIA 0402, Metric 1005, Body 1.00x0.50mm, IPC Low Density)
simulation model Resistor (Model Description)
pins: 1, 2

## RESC_YAGEO_RC0402FR-07300KL
designator R?, comment 300kR
300 kOhms ±1% 0.063W, 1/16W Chip Resistor 0402 (1005 Metric) Moisture Resistant Thick Film; Manufacturer: Yageo; Manufacturer Part Number: RC0402FR-07300KL; Power Rating: 63mW; Temperature Coefficient: 100ppm/°C; Voltage Rating (DC): 50V; Current Rating: 1A; Category: Chip SMD Resistors; Case/Package: 0402; Min Operating Temperature: -55°C; Max Operating Temperature: 155°C; Resistance: 300kR; Tolerance: 1%; Resistor Type: Thick Film; RoHS Compliant: Yes; ComponentLink1Description: Datasheet; ComponentLink1URL: https://www.yageo.com/upload/media/product/productsearch/datasheet/rchip/PYu-RC_Group_51_RoHS_L_12.pdf; Supplier 1: Digi-Key; Supplier 2: Mouser; Supplier Part Number 1: 311-300KLRCT-ND; Supplier Part Number 2: 603-RC0402FR-07300KL; Mounting Type: SMD/SMT
footprint RESC1005X40N (Chip Resistor, EIA 0402, Metric 1005, Body 1.00x0.50mm, IPC Medium Density)
footprint RESC1005X40L (Chip Resistor, EIA 0402, Metric 1005, Body 1.00x0.50mm, IPC High Density)
footprint RESC1005X40M (Chip Resistor, EIA 0402, Metric 1005, Body 1.00x0.50mm, IPC Low Density)
simulation model Resistor (Model Description)
pins: 1, 2

## RESC_YAGEO_RC0603FR-070RL
designator R?, comment 0R
0 Ohms Jumper Chip Resistor 0603 (1608 Metric) Moisture Resistant Thick Film; Manufacturer: Yageo; Manufacturer Part Number: RC0603FR-070RL; Power Rating: 100mW; Tolerance: 1%; Voltage Rating (DC): 75V; Temperature Coefficient: 100ppm/°C; Current Rating: 1A; Category: Chip SMD Resistors; Case/Package: 0603; Min Operating Temperature: -55°C; Max Operating Temperature: 155°C; Resistance: 0R; Resistor Type: Thick Film; RoHS Compliant: Yes; Supplier 1: Digi-Key; Supplier Part Number 1: 311-0.0HRCT-ND; Supplier 2: Mouser; Supplier Part Number 2: 603-RC0603FR-070RL; ComponentLink1Description: Datasheet; ComponentLink1URL: https://www.yageo.com/upload/media/product/productsearch/datasheet/rchip/PYu-RC_Group_51_RoHS_L_12.pdf; Mounting Type: SMD/SMT
footprint RESC1608X55L (Chip Resistor, EIA 0603, Metric 1608, Body 1.60x0.80mm, IPC High Density)
footprint RESC1608X55M (Chip Resistor, EIA 0603, Metric 1608, Body 1.60x0.80mm, IPC Low Density)
footprint RESC1608X55N (Chip Resistor, EIA 0603, Metric 1608, Body 1.60x0.80mm, IPC Medium Density)
simulation model Resistor (Model Description)
pins: 1, 2

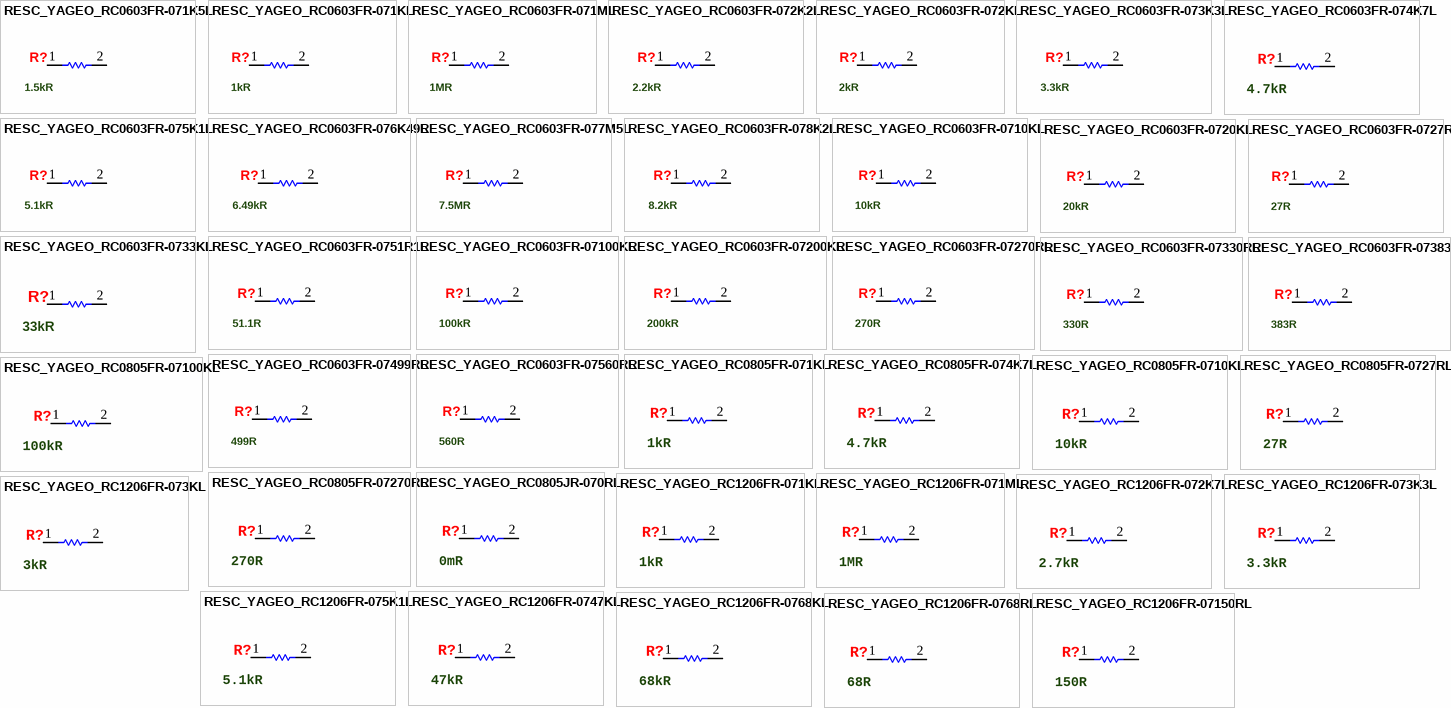
[diagram p2: symbols RESC_YAGEO_RC0603FR-071K5L to RESC_YAGEO_RC1206FR-07150RL]

## RESC_YAGEO_RC0603FR-071K5L
designator R?, comment 1.5kR
1.5 kOhms ±1% 0.1W, 1/10W Chip Resistor 0603 (1608 Metric) Moisture Resistant Thick Film; Manufacturer: Yageo; Manufacturer Part Number: RC0603FR-071K5L; Temperature Coefficient: 100ppm/°C; Power Rating: 100mW; Voltage Rating (DC): 75V; Current Rating: 1A; Category: Chip SMD Resistors; Case/Package: 0603; Min Operating Temperature: -55°C; Max Operating Temperature: 155°C; Tolerance: 1%; Resistance: 1.5kR; Resistor Type: Thick Film; ComponentLink1Description: Datasheet; ComponentLink1URL: https://www.yageo.com/upload/media/product/productsearch/datasheet/rchip/PYu-RC_Group_51_RoHS_L_12.pdf; RoHS Compliant: Yes; Supplier 1: Digi-Key; Supplier Part Number 1: 311-1.50KHRCT-ND; Supplier 2: Mouser; Supplier Part Number 2: 603-RC0603FR-071K5L; Mounting Type: SMD/SMT
footprint RESC1608X55L (Chip Resistor, EIA 0603, Metric 1608, Body 1.60x0.80mm, IPC High Density)
footprint RESC1608X55M (Chip Resistor, EIA 0603, Metric 1608, Body 1.60x0.80mm, IPC Low Density)
footprint RESC1608X55N (Chip Resistor, EIA 0603, Metric 1608, Body 1.60x0.80mm, IPC Medium Density)
simulation model Resistor (Model Description)
pins: 1, 2

## RESC_YAGEO_RC0603FR-071KL
designator R?, comment 1kR
1 kOhms ±1% 0.1W, 1/10W Chip Resistor 0603 (1608 Metric) Moisture Resistant Thick Film; Manufacturer: Yageo; Manufacturer Part Number: RC0603FR-071KL; Temperature Coefficient: 100ppm/°C; Power Rating: 100mW; Voltage Rating (DC): 75V; Current Rating: 1A; Category: Chip SMD Resistors; Case/Package: 0603; Min Operating Temperature: -55°C; Max Operating Temperature: 155°C; Tolerance: 1%; Resistance: 1kR; Resistor Type: Thick Film; ComponentLink1Description: Datasheet; ComponentLink1URL: https://www.yageo.com/upload/media/product/productsearch/datasheet/rchip/PYu-RC_Group_51_RoHS_L_12.pdf; RoHS Compliant: Yes; Supplier 1: Digi-Key; Supplier Part Number 1: 311-1.00KHRCT-ND; Supplier 2: Mouser; Supplier Part Number 2: 603-RC0603FR-071KL; Mounting Type: SMD/SMT
footprint RESC1608X55L (Chip Resistor, EIA 0603, Metric 1608, Body 1.60x0.80mm, IPC High Density)
footprint RESC1608X55M (Chip Resistor, EIA 0603, Metric 1608, Body 1.60x0.80mm, IPC Low Density)
footprint RESC1608X55N (Chip Resistor, EIA 0603, Metric 1608, Body 1.60x0.80mm, IPC Medium Density)
simulation model Resistor (Model Description)
pins: 1, 2

## RESC_YAGEO_RC0603FR-071ML
designator R?, comment 1MR
1 MOhms ±1% 0.1W, 1/10W Chip Resistor 0603 (1608 Metric) Moisture Resistant Thick Film; Manufacturer: Yageo; Manufacturer Part Number: RC0603FR-071ML; Temperature Coefficient: 100ppm/°C; Voltage Rating (DC): 75V; Power Rating: 100mW; Current Rating: 1A; Category: Chip SMD Resistors; Case/Package: 0603; Min Operating Temperature: -55°C; Max Operating Temperature: 155°C; Tolerance: 1%; Resistor Type: Thick Film; Resistance: 1MR; ComponentLink1Description: Datasheet; ComponentLink1URL: https://www.yageo.com/upload/media/product/productsearch/datasheet/rchip/PYu-RC_Group_51_RoHS_L_12.pdf; RoHS Compliant: Yes; Supplier 1: Digi-Key; Supplier Part Number 1: 311-1.00MHRCT-ND; Supplier 2: Mouser; Supplier Part Number 2: 603-RC0603FR-071ML; Mounting Type: SMD/SMT
footprint RESC1608X55L (Chip Resistor, EIA 0603, Metric 1608, Body 1.60x0.80mm, IPC High Density)
footprint RESC1608X55M (Chip Resistor, EIA 0603, Metric 1608, Body 1.60x0.80mm, IPC Low Density)
footprint RESC1608X55N (Chip Resistor, EIA 0603, Metric 1608, Body 1.60x0.80mm, IPC Medium Density)
simulation model Resistor (Model Description)
pins: 1, 2

## RESC_YAGEO_RC0603FR-072K2L
designator R?, comment 2.2kR
2.2 kOhms ±1% 0.1W, 1/10W Chip Resistor 0603 (1608 Metric) Moisture Resistant Thick Film; Manufacturer: Yageo; Manufacturer Part Number: RC0603FR-072K2L; Temperature Coefficient: 100ppm/°C; Power Rating: 100mW; Voltage Rating (DC): 75V; Current Rating: 1A; Category: Chip SMD Resistors; Case/Package: 0603; Min Operating Temperature: -55°C; Max Operating Temperature: 155°C; Resistance: 2.2kR; Tolerance: 1%; Resistor Type: Thick Film; ComponentLink1Description: Datasheet; ComponentLink1URL: https://www.yageo.com/upload/media/product/productsearch/datasheet/rchip/PYu-RC_Group_51_RoHS_L_12.pdf; RoHS Compliant: Yes; Supplier 1: Digi-Key; Supplier Part Number 1: 311-2.20KHRCT-ND; Supplier 2: Mouser; Supplier Part Number 2: 603-RC0603FR-072K2L; Mounting Type: SMD/SMT
footprint RESC1608X55L (Chip Resistor, EIA 0603, Metric 1608, Body 1.60x0.80mm, IPC High Density)
footprint RESC1608X55M (Chip Resistor, EIA 0603, Metric 1608, Body 1.60x0.80mm, IPC Low Density)
footprint RESC1608X55N (Chip Resistor, EIA 0603, Metric 1608, Body 1.60x0.80mm, IPC Medium Density)
simulation model Resistor (Model Description)
pins: 1, 2

## RESC_YAGEO_RC0603FR-072KL
designator R?, comment 2kR
2 kOhms ±1% 0.1W, 1/10W Chip Resistor 0603 (1608 Metric) Moisture Resistant Thick Film; Manufacturer: Yageo; Manufacturer Part Number: RC0603FR-072KL; Temperature Coefficient: 100ppm/°C; Power Rating: 100mW; Voltage Rating (DC): 75V; Current Rating: 1A; Category: Chip SMD Resistors; Case/Package: 0603; Min Operating Temperature: -55°C; Max Operating Temperature: 155°C; Tolerance: 1%; Resistance: 2kR; Resistor Type: Thick Film; ComponentLink1Description: Datasheet; ComponentLink1URL: https://www.yageo.com/upload/media/product/productsearch/datasheet/rchip/PYu-RC_Group_51_RoHS_L_12.pdf; RoHS Compliant: Yes; Supplier 1: Digi-Key; Supplier Part Number 1: 311-2.00KHRCT-ND; Supplier 2: Mouser; Supplier Part Number 2: 603-RC0603FR-072KL; Mounting Type: SMD/SMT
footprint RESC1608X55L (Chip Resistor, EIA 0603, Metric 1608, Body 1.60x0.80mm, IPC High Density)
footprint RESC1608X55M (Chip Resistor, EIA 0603, Metric 1608, Body 1.60x0.80mm, IPC Low Density)
footprint RESC1608X55N (Chip Resistor, EIA 0603, Metric 1608, Body 1.60x0.80mm, IPC Medium Density)
simulation model Resistor (Model Description)
pins: 1, 2

## RESC_YAGEO_RC0603FR-073K3L
designator R?, comment 3.3kR
3.3 kOhms ±1% 0.1W, 1/10W Chip Resistor 0603 (1608 Metric) Moisture Resistant Thick Film; Manufacturer: Yageo; Manufacturer Part Number: RC0603FR-073K3L; Temperature Coefficient: 100ppm/°C; Voltage Rating (DC): 75V; Power Rating: 100mW; Current Rating: 1A; Category: Chip SMD Resistors; Case/Package: 0603; Min Operating Temperature: -55°C; Max Operating Temperature: 155°C; Resistance: 3.3kR; Tolerance: 1%; Resistor Type: Thick Film; ComponentLink1Description: Datasheet; ComponentLink1URL: https://www.yageo.com/upload/media/product/productsearch/datasheet/rchip/PYu-RC_Group_51_RoHS_L_12.pdf; RoHS Compliant: Yes; Supplier 1: Digi-Key; Supplier Part Number 1: 311-3.30KHRCT-ND; Supplier 2: Mouser; Supplier Part Number 2: 603-RC0603FR-073K3L; Mounting Type: SMD/SMT
footprint RESC1608X55L (Chip Resistor, EIA 0603, Metric 1608, Body 1.60x0.80mm, IPC High Density)
footprint RESC1608X55M (Chip Resistor, EIA 0603, Metric 1608, Body 1.60x0.80mm, IPC Low Density)
footprint RESC1608X55N (Chip Resistor, EIA 0603, Metric 1608, Body 1.60x0.80mm, IPC Medium Density)
simulation model Resistor (Model Description)
pins: 1, 2

## RESC_YAGEO_RC0603FR-074K7L
designator R?, comment 4.7kR
4.7 kOhms ±1% 0.1W, 1/10W Chip Resistor 0603 (1608 Metric) Moisture Resistant Thick Film; Manufacturer: Yageo; Manufacturer Part Number: RC0603FR-074K7L; Power Rating: 100mW; Voltage Rating (DC): 75V; Temperature Coefficient: 100ppm/°C; Current Rating: 1A; Category: Chip SMD Resistors; Case/Package: 0603; Min Operating Temperature: -55°C; Max Operating Temperature: 155°C; Tolerance: 1%; Resistance: 4.7kR; Resistor Type: Thick Film; RoHS Compliant: Yes; ComponentLink1URL: https://www.yageo.com/upload/media/product/productsearch/datasheet/rchip/PYu-RC_Group_51_RoHS_L_12.pdf; ComponentLink1Description: Datasheet; Supplier 1: Digi-Key; Supplier 2: Mouser; Supplier Part Number 1: 311-4.70KHRCT-ND; Supplier Part Number 2: 603-RC0603FR-074K7L; Mounting Type: SMD/SMT
footprint RESC1608X55N (Chip Resistor, EIA 0603, Metric 1608, Body 1.60x0.80mm, IPC Medium Density)
footprint RESC1608X55L (Chip Resistor, EIA 0603, Metric 1608, Body 1.60x0.80mm, IPC High Density)
footprint RESC1608X55M (Chip Resistor, EIA 0603, Metric 1608, Body 1.60x0.80mm, IPC Low Density)
simulation model Resistor (Model Description)
pins: 1, 2

## RESC_YAGEO_RC0603FR-075K1L
designator R?, comment 5.1kR
5.1 kOhms ±1% 0.1W, 1/10W Chip Resistor 0603 (1608 Metric) Moisture Resistant Thick Film; Manufacturer: Yageo; Manufacturer Part Number: RC0603FR-075K1L; Temperature Coefficient: 100ppm/°C; Voltage Rating (DC): 75V; Power Rating: 100mW; Current Rating: 1A; Category: Chip SMD Resistors; Case/Package: 0603; Min Operating Temperature: -55°C; Max Operating Temperature: 155°C; Resistance: 5.1kR; Tolerance: 1%; Resistor Type: Thick Film; ComponentLink1URL: https://www.yageo.com/upload/media/product/productsearch/datasheet/rchip/PYu-RC_Group_51_RoHS_L_12.pdf; ComponentLink1Description: Datasheet; RoHS Compliant: Yes; Supplier 1: Digi-Key; Supplier Part Number 1: 311-5.10KHRCT-ND; Supplier 2: Mouser; Supplier Part Number 2: 603-RC0603FR-075K1L; Mounting Type: SMD/SMT
footprint RESC1608X55L (Chip Resistor, EIA 0603, Metric 1608, Body 1.60x0.80mm, IPC High Density)
footprint RESC1608X55M (Chip Resistor, EIA 0603, Metric 1608, Body 1.60x0.80mm, IPC Low Density)
footprint RESC1608X55N (Chip Resistor, EIA 0603, Metric 1608, Body 1.60x0.80mm, IPC Medium Density)
simulation model Resistor (Model Description)
pins: 1, 2